# Altium footprint library Shielded Wirewounded Inductors.PcbLib: 1 footprints
Each footprint in its own frame and in the unit in brackets; x right, y up, seen from the top. Pads: shape width x height; smd on the part's side, far side on the other; paste and mask are expansions set on the pad; w line width, h text height; cw(c..) or ccw(c..) is an arc to the next point about the centre after c.
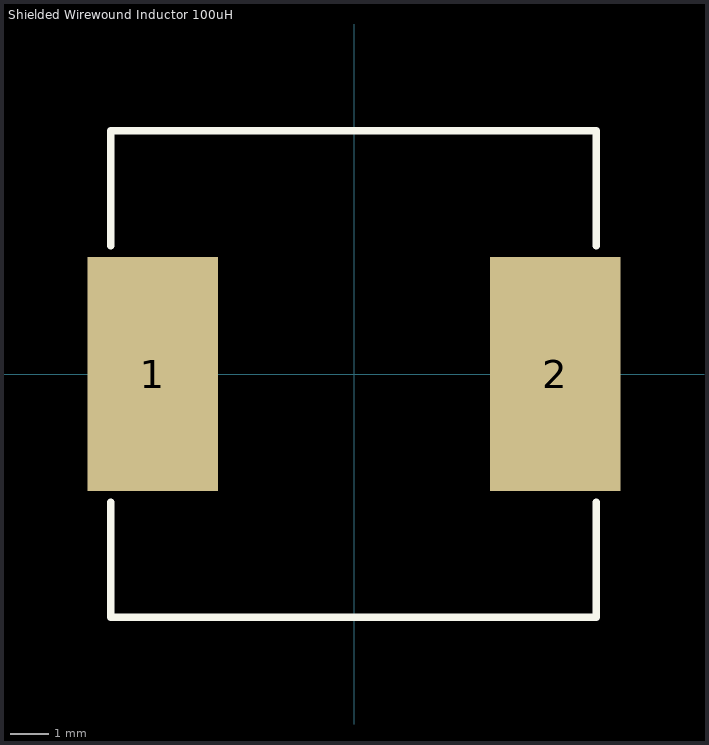
[diagram p0: the footprint, top view; thin cyan lines are the x and y axes]

## Shielded Wirewound Inductor 100uH [mm] "100µH Shielded Wirewound Inductor 2.5A 135mOhm Max Nonstandard"
pads (2):
  rect 3.35x6 smd: 1(-5.175,0) 2(5.175,0)
Top Overlay:
  lines w0.2: -6.25,-3.302 -6.25,-6.25 6.223,-6.25 6.223,-3.302 ; -6.25,3.302 -6.25,6.25 6.223,6.25 6.223,3.302
3D body "User Library-SRR1210_inductor.STEP": height 10.41, standoff 0.01, extent -6,-6.031 6,5.969